# EAGLE library part MICRO-SDCARD (library GravicapaLib)
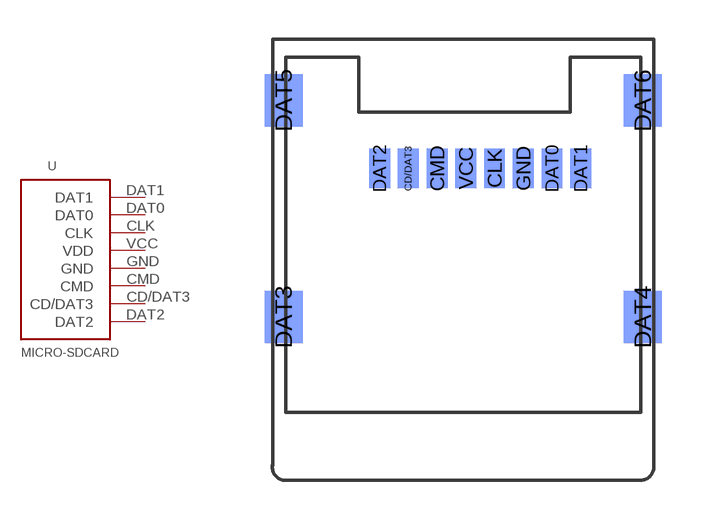
[diagram p3: symbol with the pads of MICRO-SDCARD; footprint MICRO-SDCARD]

Designator prefix -

## MICRO-SDCARD  [MICRO-SDCARD]
CD/DAT3  CD/DAT3
CLK  CLK
CMD  CMD
DAT0  DAT0
DAT1  DAT1
DAT2  DAT2
GND  GND
VCC  VDD

## Footprint MICRO-SDCARD (pad centres in mm)
smd 0.8 x 1.5 bottom: CD/DAT3 -2.1,0.75; CLK 1.2,0.75; CMD -1,0.75; DAT0 3.4,0.75; DAT1 4.5,0.75; DAT2 -3.2,0.75; GND 2.3,0.75; VCC 0.1,0.75
smd 1.45 x 2 bottom: DAT3 -6.875,-4.95; DAT4 6.875,-4.95; DAT5 -6.875,3.35; DAT6 6.875,3.35